# EAGLE library part KSZ9477S (library gothack-made)
KSZ9477S 7-Port Gigabit Ethernet Switch with Ring Redundancy, SGMII and RGMII/MII/RMII Interfaces
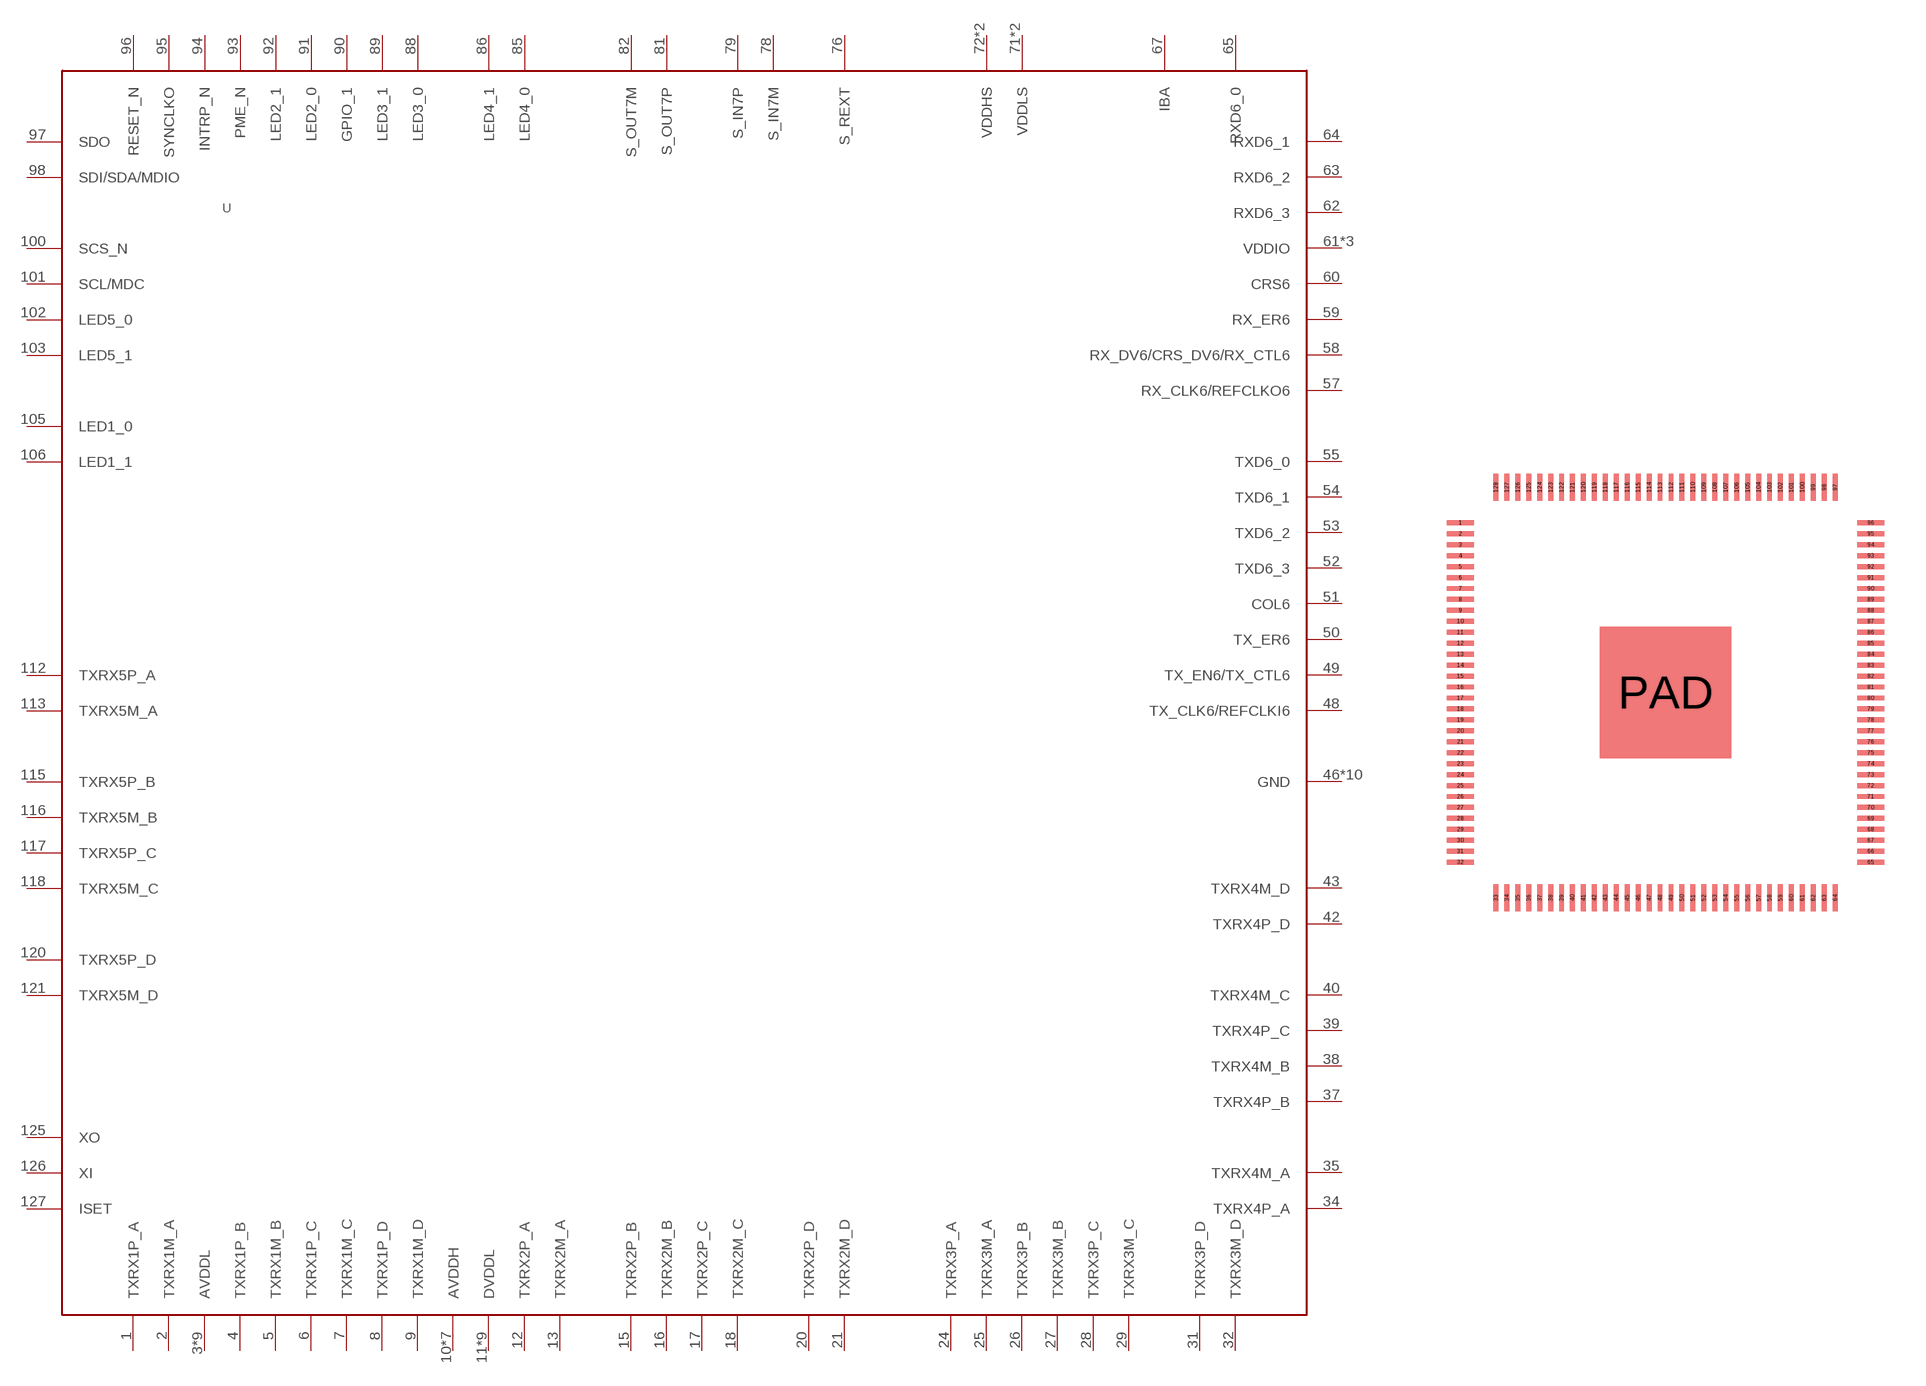
[diagram p1: symbol with the pads of TQFP128; footprint TQFP128]

Designator prefix -

## KSZ9477S  [TQFP128]
1  TXRX1P_A
2  TXRX1M_A
3  AVDDL
4  TXRX1P_B
5  TXRX1M_B
6  TXRX1P_C
7  TXRX1M_C
8  TXRX1P_D
9  TXRX1M_D
10  AVDDH
11  DVDDL
12  TXRX2P_A
13  TXRX2M_A
14  AVDDL
15  TXRX2P_B
16  TXRX2M_B
17  TXRX2P_C
18  TXRX2M_C
19  AVDDL
20  TXRX2P_D
21  TXRX2M_D
22  AVDDH
23  DVDDL
24  TXRX3P_A
25  TXRX3M_A
26  TXRX3P_B
27  TXRX3M_B
28  TXRX3P_C
29  TXRX3M_C
30  AVDDL
31  TXRX3P_D
32  TXRX3M_D
33  AVDDH
34  TXRX4P_A
35  TXRX4M_A
36  AVDDL
37  TXRX4P_B
38  TXRX4M_B
39  TXRX4P_C
40  TXRX4M_C
41  AVDDL
42  TXRX4P_D
43  TXRX4M_D
44  AVDDH
45  DVDDL
46  GND
47  GND
48  TX_CLK6/REFCLKI6
49  TX_EN6/TX_CTL6
50  TX_ER6
51  COL6
52  TXD6_3
53  TXD6_2
54  TXD6_1
55  TXD6_0
56  DVDDL
57  RX_CLK6/REFCLKO6
58  RX_DV6/CRS_DV6/RX_CTL6
59  RX_ER6
60  CRS6
61  VDDIO
62  RXD6_3
63  RXD6_2
64  RXD6_1
65  RXD6_0
66  DVDDL
67  IBA
68  VDDIO
69  GND
70  DVDDL
71  VDDLS
72  VDDHS
75  GND
76  S_REXT
77  GND
78  S_IN7M
79  S_IN7P
80  GND
81  S_OUT7P
82  S_OUT7M
83  VDDHS
84  VDDLS
85  LED4_0
86  LED4_1
87  DVDDL
88  LED3_0
89  LED3_1
90  GPIO_1
91  LED2_0
92  LED2_1
93  PME_N
94  INTRP_N
95  SYNCLKO
96  RESET_N
97  SDO
98  SDI/SDA/MDIO
99  VDDIO
100  SCS_N
101  SCL/MDC
102  LED5_0
103  LED5_1
104  DVDDL
105  LED1_0
106  LED1_1
107  GND
109  GND
110  DVDDL
111  AVDDH
112  TXRX5P_A
113  TXRX5M_A
114  AVDDL
115  TXRX5P_B
116  TXRX5M_B
117  TXRX5P_C
118  TXRX5M_C
119  AVDDL
120  TXRX5P_D
121  TXRX5M_D
122  AVDDH
123  GND
124  AVDDL
125  XO
126  XI
127  ISET
128  AVDDH
PAD  GND

## Footprint TQFP128 (pad centres in mm)
smd 1 x 0.18: 1 -7.5,6.2; 2 -7.5,5.8; 3 -7.5,5.4; 4 -7.5,5; 5 -7.5,4.6; 6 -7.5,4.2; 7 -7.5,3.8; 8 -7.5,3.4; 9 -7.5,3; 10 -7.5,2.6; 11 -7.5,2.2; 12 -7.5,1.8; 13 -7.5,1.4; 14 -7.5,1; 15 -7.5,0.6; 16 -7.5,0.2; 17 -7.5,-0.2; 18 -7.5,-0.6; 19 -7.5,-1; 20 -7.5,-1.4; 21 -7.5,-1.8; 22 -7.5,-2.2; 23 -7.5,-2.6; 24 -7.5,-3; 25 -7.5,-3.4; 26 -7.5,-3.8; 27 -7.5,-4.2; 28 -7.5,-4.6; 29 -7.5,-5; 30 -7.5,-5.4; 31 -7.5,-5.8; 32 -7.5,-6.2; 65 7.5,-6.2; 66 7.5,-5.8; 67 7.5,-5.4; 68 7.5,-5; 69 7.5,-4.6; 70 7.5,-4.2; 71 7.5,-3.8; 72 7.5,-3.4; 73 7.5,-3; 74 7.5,-2.6; 75 7.5,-2.2; 76 7.5,-1.8; 77 7.5,-1.4; 78 7.5,-1; 79 7.5,-0.6; 80 7.5,-0.2; 81 7.5,0.2; 82 7.5,0.6; 83 7.5,1; 84 7.5,1.4; 85 7.5,1.8; 86 7.5,2.2; 87 7.5,2.6; 88 7.5,3; 89 7.5,3.4; 90 7.5,3.8; 91 7.5,4.2; 92 7.5,4.6; 93 7.5,5; 94 7.5,5.4; 95 7.5,5.8; 96 7.5,6.2
smd 0.18 x 1: 33 -6.2,-7.5; 34 -5.8,-7.5; 35 -5.4,-7.5; 36 -5,-7.5; 37 -4.6,-7.5; 38 -4.2,-7.5; 39 -3.8,-7.5; 40 -3.4,-7.5; 41 -3,-7.5; 42 -2.6,-7.5; 43 -2.2,-7.5; 44 -1.8,-7.5; 45 -1.4,-7.5; 46 -1,-7.5; 47 -0.6,-7.5; 48 -0.2,-7.5; 49 0.2,-7.5; 50 0.6,-7.5; 51 1,-7.5; 52 1.4,-7.5; 53 1.8,-7.5; 54 2.2,-7.5; 55 2.6,-7.5; 56 3,-7.5; 57 3.4,-7.5; 58 3.8,-7.5; 59 4.2,-7.5; 60 4.6,-7.5; 61 5,-7.5; 62 5.4,-7.5; 63 5.8,-7.5; 64 6.2,-7.5; 97 6.2,7.5; 98 5.8,7.5; 99 5.4,7.5; 100 5,7.5; 101 4.6,7.5; 102 4.2,7.5; 103 3.8,7.5; 104 3.4,7.5; 105 3,7.5; 106 2.6,7.5; 107 2.2,7.5; 108 1.8,7.5; 109 1.4,7.5; 110 1,7.5; 111 0.6,7.5; 112 0.2,7.5; 113 -0.2,7.5; 114 -0.6,7.5; 115 -1,7.5; 116 -1.4,7.5; 117 -1.8,7.5; 118 -2.2,7.5; 119 -2.6,7.5; 120 -3,7.5; 121 -3.4,7.5; 122 -3.8,7.5; 123 -4.2,7.5; 124 -4.6,7.5; 125 -5,7.5; 126 -5.4,7.5; 127 -5.8,7.5; 128 -6.2,7.5
smd 4.8 x 4.8: PAD 0,0